# Altium footprint library ICs.PcbLib: 115 footprints (part 1 of 8)
Each footprint in its own frame and in the unit in brackets; x right, y up, seen from the top. Pads: shape width x height; smd on the part's side, far side on the other; paste and mask are expansions set on the pad; w line width, h text height; cw(c..) or ccw(c..) is an arc to the next point about the centre after c.
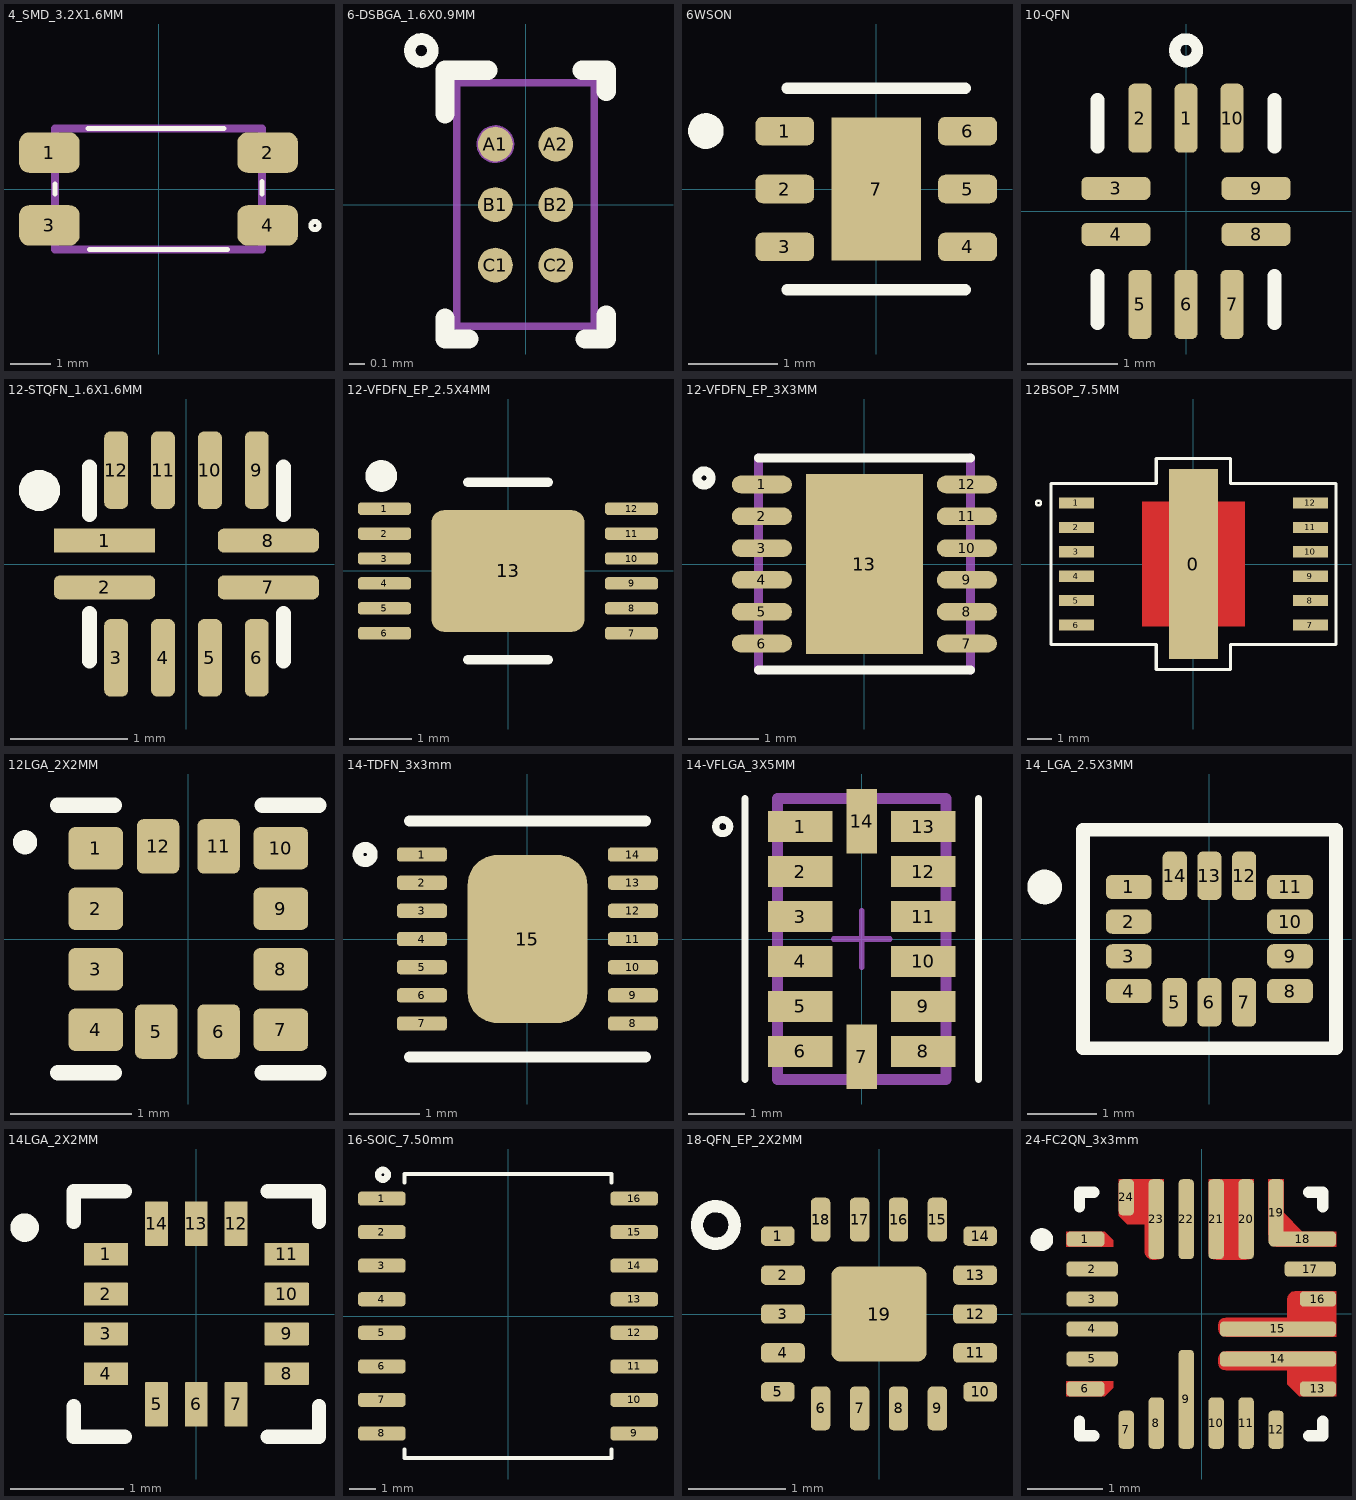
[diagram p0: the footprints below, top view; thin cyan lines are the x and y axes]

## 4_SMD_3.2X1.6MM [mm] "/ 20191115/ J-P.Vargas.A"
pads (4):
  rrect50% 1.5x1 smd: 1(-2.7,0.9) 2(2.7,0.9) 3(-2.7,-0.9) 4(2.7,-0.9)
Top Overlay:
  lines w0.127: -2.56,-0.12 -2.56,0.12 ; -1.74,1.5 1.62,1.5 ; -1.71,-1.5 1.71,-1.5 ; 2.56,-0.12 2.56,0.18 ; 3.962,-0.94 cw(c3.869,-0.905) 3.969,-0.905
Mechanical 1:
  lines w0.2: -2.56,-1.5 2.56,-1.5 2.56,1.5 -2.56,1.5 -2.56,-1.5
3D body "Kingbright_APS-5130.step": height 1.2, standoff 0, extent -2.56,-1.525 2.56,1.475
3D body "Kingbright_APS-5130.step": height 1.2, standoff 0, extent -2.56,-1.526 2.56,1.475

## 6-DSBGA_1.6X0.9MM [mm] "20220103 / A-F. Romo"
pads (6):
  round 0.23 smd paste-0.102 mask+0.038: A1(-0.2,0.4) A2(0.2,0.4) B1(-0.2,0) B2(0.2,0) C1(-0.2,-0.4) C2(0.2,-0.4)
Top Overlay:
  circle w0.076: c-0.69,1.019 r0.076
  lines w0.127: -0.533,-0.75 -0.533,-0.889 -0.375,-0.889 ; -0.533,0.6 -0.533,0.889 -0.25,0.889 ; 0.375,0.889 0.533,0.889 0.533,0.75 ; 0.394,-0.889 0.533,-0.889 0.533,-0.731
Top Paste:
  circle w0.05: c-0.125,-0.325 r0.025
  circle w0.05: c-0.275,-0.475 r0.025
  circle w0.05: c-0.275,-0.325 r0.025
  circle w0.05: c-0.125,-0.475 r0.025
  circle w0.05: c0.275,-0.475 r0.025
  circle w0.05: c0.125,-0.325 r0.025
  circle w0.05: c0.125,-0.475 r0.025
  circle w0.05: c0.275,-0.325 r0.025
  circle w0.05: c-0.125,0.075 r0.025
  circle w0.05: c-0.275,-0.075 r0.025
  circle w0.05: c-0.275,0.075 r0.025
  circle w0.05: c-0.125,-0.075 r0.025
  circle w0.05: c0.275,-0.075 r0.025
  circle w0.05: c0.125,0.075 r0.025
  circle w0.05: c0.125,-0.075 r0.025
  circle w0.05: c0.275,0.075 r0.025
  circle w0.05: c-0.125,0.475 r0.025
  circle w0.05: c-0.275,0.325 r0.025
  circle w0.05: c-0.275,0.475 r0.025
  circle w0.05: c-0.125,0.325 r0.025
  circle w0.05: c0.275,0.325 r0.025
  circle w0.05: c0.125,0.475 r0.025
  circle w0.05: c0.125,0.325 r0.025
  circle w0.05: c0.275,0.475 r0.025
  region: -0.275,-0.475 -0.275,-0.525 -0.125,-0.525 -0.125,-0.475
  region: -0.275,-0.325 -0.325,-0.325 -0.325,-0.475 -0.275,-0.475
  region: -0.125,-0.325 -0.125,-0.275 -0.275,-0.275 -0.275,-0.325
  region: -0.125,-0.475 -0.075,-0.475 -0.075,-0.325 -0.125,-0.325
  region: -0.125,-0.325 -0.275,-0.325 -0.275,-0.475 -0.125,-0.475
  region: 0.275,-0.325 0.125,-0.325 0.125,-0.475 0.275,-0.475
  region: 0.275,-0.475 0.325,-0.475 0.325,-0.325 0.275,-0.325
  region: 0.275,-0.325 0.275,-0.275 0.125,-0.275 0.125,-0.325
  region: 0.125,-0.325 0.075,-0.325 0.075,-0.475 0.125,-0.475
  region: 0.125,-0.475 0.125,-0.525 0.275,-0.525 0.275,-0.475
  region: -0.275,-0.075 -0.275,-0.125 -0.125,-0.125 -0.125,-0.075
  region: -0.275,0.075 -0.325,0.075 -0.325,-0.075 -0.275,-0.075
  region: -0.125,0.075 -0.125,0.125 -0.275,0.125 -0.275,0.075
  region: -0.125,-0.075 -0.075,-0.075 -0.075,0.075 -0.125,0.075
  region: -0.125,0.075 -0.275,0.075 -0.275,-0.075 -0.125,-0.075
  region: 0.275,0.075 0.125,0.075 0.125,-0.075 0.275,-0.075
  region: 0.275,-0.075 0.325,-0.075 0.325,0.075 0.275,0.075
  region: 0.275,0.075 0.275,0.125 0.125,0.125 0.125,0.075
  region: 0.125,0.075 0.075,0.075 0.075,-0.075 0.125,-0.075
  region: 0.125,-0.075 0.125,-0.125 0.275,-0.125 0.275,-0.075
  region: -0.275,0.325 -0.275,0.275 -0.125,0.275 -0.125,0.325
  region: -0.275,0.475 -0.325,0.475 -0.325,0.325 -0.275,0.325
  region: -0.125,0.475 -0.125,0.525 -0.275,0.525 -0.275,0.475
  region: -0.125,0.325 -0.075,0.325 -0.075,0.475 -0.125,0.475
  region: -0.125,0.475 -0.275,0.475 -0.275,0.325 -0.125,0.325
  region: 0.275,0.475 0.125,0.475 0.125,0.325 0.275,0.325
  region: 0.275,0.325 0.325,0.325 0.325,0.475 0.275,0.475
  region: 0.275,0.475 0.275,0.525 0.125,0.525 0.125,0.475
  region: 0.125,0.475 0.075,0.475 0.075,0.325 0.125,0.325
  region: 0.125,0.325 0.125,0.275 0.275,0.275 0.275,0.325
Mechanical 1:
  lines w0.05: -0.455,-0.805 -0.455,0.805 0.455,0.805 0.455,-0.805 -0.455,-0.805
Mechanical 13:
  circle w0.05: c-0.2,0.4 r0.1
3D body "BQ25101YFPR.STEP": height 0.5, standoff 0, extent -0.4,-0.6 0.4,0.6

## 6WSON [mm] "/20240322/ J.Jaramillo"
pads (7):
  rrect50% 0.66x0.32 smd: 1(-1.025,0.65) 2(-1.025,0) 3(-1.025,-0.65) 4(1.025,-0.65) 5(1.025,0) 6(1.025,0.65)
  rect 1x1.6 smd paste-2: 7(0,0)
Top Overlay:
  circle w0.2: c-1.91,0.65 r0.1
  lines w0.127: -1,-1.13 1,-1.13 ; -1,1.13 1,1.13
Top Paste:
  region: 0.316,-0.506 -0.316,-0.506 -0.316,0.506 0.316,0.506
3D body "step_temp.STEP": height 0.8, standoff 0, extent -1,-1 1,1

## 10-QFN [mil] "/20230802/J-A.Sepulveda"
pads (10):
  rrect50% 10x30 smd: 1(0,40.5) 2(-20,40.5) 5(-20,-40.5) 6(0,-40.5) 7(20,-40.5) 10(20,40.5)
  rrect50% 30x10 smd: 3(-30.5,10) 4(-30.5,-10) 8(30.5,-10) 9(30.5,10)
Top Overlay:
  circle w5: c0,70 r4.92
  lines w6: -38.5,-48.5 -38.5,-28.1 ; -38.5,28.1 -38.5,48.5 ; 38.5,-48.5 38.5,-28.1 ; 38.5,28.1 38.5,48.5
3D body "QFN10_1P6X2P1MC_MCH.step": height 65.12, standoff 0, extent -33.5,-43.5 33.5,43.5

## 12-STQFN_1.6X1.6MM [mil] "12X2 QFN/20230808/N-A.Potosi"
pads (12):
  rect 34x8 smd paste+0 mask+0: 1(-27.5,7.87)
  rrect50% 34x8 smd paste+0 mask+0: 2(-27.5,-7.87) 7(27.5,-7.87) 8(27.5,7.87)
  rrect50% 8x26 smd paste+0 mask+0: 3(-23.62,-31.5) 4(-7.87,-31.5) 5(7.87,-31.5) 6(23.62,-31.5) 9(23.62,31.5) 10(7.87,31.5) 11(-7.87,31.5) 12(-23.62,31.5)
Top Overlay:
  region: -49.42,17.91 -50.77,17.91 -53.28,18.95 -55.2,20.87 -56.24,23.38 -56.24,24.74 -56.24,26.1 -55.2,28.6 -53.28,30.52 -50.77,31.56 -49.42,31.56 -48.06,31.56 -45.55,30.52 -43.63,28.6 -42.59,26.1 -42.59,24.74 -42.59,23.38 -43.63,20.87 -45.55,18.95 -48.06,17.91
  lines w5: -32.52,-32.52 -32.52,-16.57 ; -32.52,16.57 -32.52,32.52 ; 32.52,-32.52 32.52,-16.57 ; 32.52,16.57 32.52,32.52
3D body "STQFN_PI5USB30216DXUAEX_DIO.step": height 16.1, standoff 0, extent -32.52,-32.52 32.52,32.52

## 12-VFDFN_EP_2.5X4MM [mm] "12-SON/20220531/N-A.Potosi"
pads (13):
  rrect50% 0.85x0.2 smd: 1(-1.981,1) 2(-1.981,0.6) 3(-1.981,0.2) 4(-1.981,-0.2) 5(-1.981,-0.6) 6(-1.981,-1) 7(1.981,-1) 8(1.981,-0.6) 9(1.981,-0.2) 10(1.981,0.2) 11(1.981,0.6) 12(1.981,1)
  rrect20% 2.45x1.95 smd: 13(0,0)
Top Overlay:
  circle w0.254: c-2.032,1.524 r0.127
  lines w0.152: -0.642,-1.427 0.642,-1.427 ; -0.642,1.427 0.642,1.427
3D body "DRZ0012A.stp": height 1, standoff 0, extent -2,-1.25 2,1.25

## 12-VFDFN_EP_3X3MM [mm] "/20210809/J-E.Pachon"
pads (13):
  oval 0.85x0.25 smd: 1(-1.45,1.125) 2(-1.45,0.675) 3(-1.45,0.225) 4(-1.45,-0.225) 5(-1.45,-0.675) 6(-1.45,-1.125) 7(1.45,-1.125) 8(1.45,-0.675) 9(1.45,-0.225) 10(1.45,0.225) 11(1.45,0.675) 12(1.45,1.125)
  rect 1.65x2.55 smd paste-2: 13(0,0)
Top Overlay:
  circle w0.127: c-2.268,1.217 r0.1
  lines w0.127: -1.5,-1.5 1.5,-1.5 ; -1.5,1.5 1.5,1.5
Top Paste:
  region: 0.46,-0.912 -0.461,-0.912 -0.461,0.91 0.46,0.91
Mechanical 13:
  lines w0.127: -1.5,-1.5 -1.5,1.5 ; 1.5,-1.5 1.5,1.5
3D body "FT234XD-T.STEP": height 0.81, standoff 0.01, extent -1.5,-1.5 1.5,1.5

## 12BSOP_7.5MM [mil] "/20220808/J-E.Pachon"
pads (13):
  rect 78.74x307.09 smd: 0(0,0)
  rect 56x18 smd paste+0: 1(-188.76,98.43) 2(-188.76,59.06) 3(-188.76,19.68) 4(-188.76,-19.68) 5(-188.76,-59.06) 6(-188.76,-98.43) 7(188.76,-98.43) 8(188.76,-59.06) 9(188.76,-19.68) 10(188.76,19.68) 11(188.76,59.06) 12(188.76,98.43)
Top Layer:
  region: -82.5,-100.5 -82.5,100.5 82.5,100.5 82.5,-100.5
Top Overlay:
  circle w3.94: c-250,98.43 r3.94
  lines w5: -230,-130 -230,120 -230,130 -82.5,130 -60,130 -60,170 60,170 60,130 230,130 230,120 230,-130 60,-130 60,-170 -50,-170 -60,-170 -60,-130 -230,-130
3D body "IFX9201SG-.STEP": height 100, standoff 0.62, extent -203.27,-153.55 203.27,153.54

## 12LGA_2X2MM [mm] "/20210319/J-E.Pachon"
pads (12):
  rrect30% 0.45x0.35 smd: 1(-0.765,0.75) 2(-0.765,0.25) 3(-0.765,-0.25) 4(-0.765,-0.75) 7(0.765,-0.75) 8(0.765,-0.25) 9(0.765,0.25) 10(0.765,0.75)
  rrect30% 0.35x0.45 smd: 5(-0.265,-0.765) 6(0.25,-0.765) 11(0.25,0.765) 12(-0.25,0.765)
Top Overlay:
  circle w0.1: c-1.35,0.8 r0.05
  lines w0.127: -1.08,-1.105 -0.61,-1.105 ; -1.08,1.105 -0.61,1.105 ; 0.61,-1.105 1.08,-1.105 ; 0.61,1.105 1.08,1.105
3D body "LGA-12_STM.step": height 0.99, standoff 0, extent -1.078,-1.086 1.082,1.074

## 14-TDFN_3x3mm [mil] "/20230801/J-A.Sepulveda"
pads (15):
  rrect50% 28x8 smd: 1(-59,47.24) 2(-59,31.5) 3(-59,15.75) 4(-59,0) 5(-59,-15.75) 6(-59,-31.5) 7(-59,-47.24) 8(59,-47.24) 9(59,-31.5) 10(59,-15.75) 11(59,0) 12(59,15.75) 13(59,31.5) 14(59,47.24)
  rrect50% 67x94 smd: 15(0,0)
Top Overlay:
  circle w6: c-90.75,47.24 r4
  lines w6: -66,-66 66,-66 ; -66,66 66,66
3D body "21-0137_T1433+2C_MXM.step": height 32.09, standoff 0, extent -60.98,-60.98 60.98,60.98

## 14-VFLGA_3X5MM [mm] "/20210809/J-E.Pachon"
pads (14):
  rect 1.145x0.55 smd paste+0 mask+0.102: 1(-1.098,2) 2(-1.098,1.2) 3(-1.098,0.4) 4(-1.098,-0.4) 5(-1.098,-1.2) 6(-1.098,-2) 8(1.098,-2) 9(1.098,-1.2) 10(1.098,-0.4) 11(1.098,0.4) 12(1.098,1.2) 13(1.098,2)
  rect 0.55x1.145 smd paste+0 mask+0.102: 7(0,-2.097) 14(0,2.097)
Top Overlay:
  circle w0.127: c-2.475,2 r0.125
  lines w0.127: -2.075,-2.5 -2.075,2.5 ; 2.075,-2.5 2.075,2.5
Mechanical 13:
  lines w0.2: -1.5,-2.5 1.5,-2.5 1.5,2.5 -1.5,2.5 -1.5,-2.5
Mechanical 16:
  lines w0.1: -0.5,0 0.5,0 ; 0,-0.5 0,0.5
3D body "IC_Analog_Devices_ADXL345BCCZ-RL7_eec.STEP": height 0.25, standoff 0, extent -2.17,-3.17 2.17,3.17

## 14_LGA_2.5X3MM [mm] "/20210809/V-A.Patino"
pads (14):
  rrect50% 0.66x0.35 smd: 1(-1.162,0.75) 2(-1.162,0.25) 3(-1.162,-0.25) 4(-1.162,-0.75) 8(1.163,-0.75) 9(1.163,-0.25) 10(1.163,0.25) 11(1.163,0.75)
  rrect50% 0.35x0.7 smd: 5(-0.5,-0.913) 6(0,-0.913) 7(0.5,-0.913) 12(0.5,0.913) 13(0,0.913) 14(-0.5,0.913)
Top Overlay:
  circle w0.25: c-2.375,0.75 r0.125
  lines w0.2: -1.825,-1.575 1.825,-1.575 1.825,1.575 -1.825,1.575 -1.825,-1.575
3D body "IC_STMicroelectronics_LSM6DSMTR_eec.STEP": height 0.86, standoff 0, extent -1.5,-1.25 1.5,1.25

## 14LGA_2X2MM [mm] "/20210809/J-E.Pachon"
pads (14):
  rrect5% 0.39x0.2 smd: 1(-0.795,0.525) 2(-0.795,0.175) 3(-0.795,-0.175) 4(-0.795,-0.525) 8(0.795,-0.525) 9(0.795,-0.175) 10(0.795,0.175) 11(0.795,0.525)
  rrect5% 0.2x0.39 smd: 5(-0.35,-0.795) 6(0,-0.795) 7(0.35,-0.795) 12(0.35,0.795) 13(0,0.795) 14(-0.35,0.795)
Top Overlay:
  circle w0.15: c-1.51,0.76 r0.05
  lines w0.127: -1.08,-0.81 -1.08,-1.08 -0.63,-1.08 ; -1.08,0.81 -1.08,1.08 -0.63,1.08 ; 0.63,-1.08 1.08,-1.08 1.08,-0.81 ; 0.63,1.08 1.08,1.08 1.08,0.81
3D body "LIS2DHTR--3DModel-STEP-56544.STEP": height 1.01, standoff 0.01, extent -1,-1 1,1

## 16-SOIC_7.50mm [mil] "20240529 / J.Jaramillo"
pads (16):
  rrect50% 71x21 smd paste+0: 1(-188,175) 2(-188,125) 3(-188,75) 4(-188,25) 5(-188,-25) 6(-188,-75) 7(-188,-125) 8(-188,-175) 9(188,-175) 10(188,-125) 11(188,-75) 12(188,-25) 13(188,25) 14(188,75) 15(188,125) 16(188,175)
Top Overlay:
  circle w10: c-186.32,210.43 r7.07
  lines w6: -154.5,-198.6 -154.5,-211.5 154.5,-211.5 154.5,-198.6 ; -154.5,198.6 -154.5,211.5 154.5,211.5 154.5,198.6
3D body "SOT162-1_NXP.step": height 104.09, standoff 0, extent -209.49,-206.5 209.49,206.5

## 18-QFN_EP_2X2MM [mm] "18-XFQFN_EP/20210809/V-A.PATINO"
pads (19):
  rrect50% 0.346x0.2 smd: 1(-1.039,0.8) 5(-1.039,-0.8) 10(1.039,-0.8) 14(1.039,0.8)
  rrect50% 0.45x0.2 smd: 2(-0.987,0.4) 3(-0.987,0) 4(-0.987,-0.4) 11(0.987,-0.4) 12(0.987,0) 13(0.987,0.4)
  rrect50% 0.2x0.45 smd: 6(-0.6,-0.97) 7(-0.2,-0.97) 8(0.2,-0.97) 9(0.6,-0.97) 15(0.6,0.97) 16(0.2,0.97) 17(-0.2,0.97) 18(-0.6,0.97)
  rrect20% 0.98x0.98 smd: 19(0,0)
Top Overlay:
  circle w0.127: c-1.676,0.914 r0.193
3D body: height 0.45, standoff 0, extent -1,-1 1,1

## 24-FC2QN_3x3mm [mil] "/20230801/J-A.Sepulveda"
pads (24):
  rrect50% 20x8 smd: 1(-61.11,39.12) 6(-61.11,-39.62)
  rrect50% 27x8 smd: 2(-57.61,23.37) 3(-57.61,7.62) 4(-57.61,-8.12) 5(-57.61,-23.87) 17(57.11,23.37)
  rrect50% 8x20 smd: 7(-39.62,-61.11) 12(39.12,-61.11)
  rrect50% 8x27 smd: 8(-23.87,-57.61) 10(7.62,-57.61) 11(23.37,-57.61)
  rrect50% 8x52 smd: 9(-8.12,-45.11)
  rrect50% 19x8 smd: 13(61.11,-39.62) 16(61.11,7.62)
  rrect50% 61x8 smd: 14(40.11,-23.87) 15(40.11,-8.12)
  rrect50% 35x8 smd: 18(53.11,39.12)
  rrect50% 8x35 smd: 19(39.12,53.11)
  rrect50% 8x42 smd: 20(23.37,49.61) 21(7.62,49.61) 22(-8.12,49.61) 23(-23.87,49.61)
  rrect50% 8x19 smd: 24(-39.62,61.11)
Top Layer:
  region: 49.01,11.62 70.61,11.62 70.61,-12.12 12.63,-12.12 11.1,-11.82 9.8,-10.95 8.93,-9.65 8.63,-8.12 8.63,-6.12 8.93,-4.59 9.8,-3.29 11.1,-2.42 12.63,-2.12 45.02,-2.12 45.01,7.62 45.31,9.15 46.18,10.45 47.48,11.32
  region: 51.4,-43.62 70.61,-43.62 70.61,-19.87 12.63,-19.87 11.1,-20.18 9.8,-21.04 8.93,-22.34 8.63,-23.87 8.63,-25.88 8.93,-27.41 9.8,-28.71 11.1,-29.58 12.63,-29.88 45.02,-29.87 45.02,-37.24
  region: 3.62,32.31 3.62,70.61 27.37,70.61 27.37,32.31 27.07,30.78 26.2,29.48 24.9,28.62 23.37,28.31 7.62,28.31 6.09,28.62 4.8,29.48 3.93,30.78
  region: 35.12,43.61 35.12,70.61 43.12,70.61 43.12,52.9 52.9,43.12 70.61,43.12 70.61,35.12 43.61,35.12 39.16,35.12 37.63,35.42 36.34,36.29 35.47,37.59 35.16,39.12
  region: -71.11,35.12 -46.51,35.12 -46.51,38.58 -50.92,43.12 -71.11,43.12
  region: -43.62,51.4 -43.62,70.61 -19.87,70.61 -19.87,32.31 -20.18,30.78 -21.04,29.48 -22.34,28.62 -23.87,28.31 -25.88,28.31 -27.41,28.62 -28.71,29.48 -29.58,30.78 -29.88,32.31 -29.87,46.99 -39.21,46.99
  region: -71.11,-35.62 -46.51,-35.62 -46.51,-39.08 -50.92,-43.62 -71.11,-43.62
  region: -71.11,-35.62 -46.51,-35.62 -46.51,-39.08 -50.92,-43.62 -71.11,-43.62
Top Overlay:
  circle w6: c-84.12,38.84 r3
  lines w6: -64.25,-56.72 -64.25,-64.25 -56.72,-64.25 ; -64.25,56.22 -64.25,63.75 -56.72,63.75 ; 56.22,-64.25 63.75,-64.25 63.75,-56.72 ; 56.22,63.75 63.75,63.75 63.75,56.22
Top Paste:
  region: 51.4,-43.62 70.61,-43.62 70.61,-19.87 12.63,-19.87 11.1,-20.18 9.8,-21.04 8.93,-22.34 8.63,-23.87 8.63,-25.88 8.93,-27.41 9.8,-28.71 11.1,-29.58 12.63,-29.88 45.02,-29.87 45.02,-37.24
  region: 49.01,11.62 70.61,11.62 70.61,-12.12 12.63,-12.12 11.1,-11.82 9.8,-10.95 8.93,-9.65 8.63,-8.12 8.63,-6.12 8.93,-4.59 9.8,-3.29 11.1,-2.42 12.63,-2.12 45.02,-2.12 45.01,7.62 45.31,9.15 46.18,10.45 47.48,11.32
  region: 35.12,43.61 35.12,70.61 43.12,70.61 43.12,52.9 52.9,43.12 70.61,43.12 70.61,35.12 43.61,35.12 39.16,35.12 37.63,35.42 36.34,36.29 35.47,37.59 35.16,39.12
  region: -43.62,51.4 -43.62,70.61 -19.87,70.61 -19.87,32.31 -20.18,30.78 -21.04,29.48 -22.34,28.62 -23.87,28.31 -25.88,28.31 -27.41,28.62 -28.71,29.48 -29.58,30.78 -29.88,32.31 -29.87,46.99 -39.21,46.99
  region: -4.12,32.31 -4.12,70.61 -12.12,70.61 -12.12,32.31 -11.82,30.78 -10.95,29.48 -9.65,28.62 -8.12,28.31 -6.59,28.62 -5.3,29.48 -4.43,30.78
  region: 3.62,32.31 3.62,70.61 27.37,70.61 27.37,32.31 27.07,30.78 26.2,29.48 24.9,28.62 23.37,28.31 7.62,28.31 6.09,28.62 4.8,29.48 3.93,30.78
  region: -71.11,35.12 -46.51,35.12 -46.51,38.58 -50.92,43.12 -71.11,43.12
  region: -71.11,-35.62 -46.51,-35.62 -46.51,-39.08 -50.92,-43.62 -71.11,-43.62
Top Solder:
  region: -71.11,-35.62 -46.51,-35.62 -46.51,-39.08 -50.92,-43.62 -71.11,-43.62
  region: 3.62,32.31 3.62,70.61 27.37,70.61 27.37,32.31 27.07,30.78 26.2,29.48 24.9,28.62 23.37,28.31 7.62,28.31 6.09,28.62 4.8,29.48 3.93,30.78
  region: 35.12,43.61 35.12,70.61 43.12,70.61 43.12,52.9 52.9,43.12 70.61,43.12 70.61,35.12 43.61,35.12 39.16,35.12 37.63,35.42 36.34,36.29 35.47,37.59 35.16,39.12
  region: 49.01,11.62 70.61,11.62 70.61,-12.12 12.63,-12.12 11.1,-11.82 9.8,-10.95 8.93,-9.65 8.63,-8.12 8.63,-6.12 8.93,-4.59 9.8,-3.29 11.1,-2.42 12.63,-2.12 45.02,-2.12 45.01,7.62 45.31,9.15 46.18,10.45 47.48,11.32
  region: -4.12,32.31 -4.12,70.61 -12.12,70.61 -12.12,32.31 -11.82,30.78 -10.95,29.48 -9.65,28.62 -8.12,28.31 -6.59,28.62 -5.3,29.48 -4.43,30.78
  region: -71.11,35.12 -46.51,35.12 -46.51,38.58 -50.92,43.12 -71.11,43.12
  region: -43.62,51.4 -43.62,70.61 -19.87,70.61 -19.87,32.31 -20.18,30.78 -21.04,29.48 -22.34,28.62 -23.87,28.31 -25.88,28.31 -27.41,28.62 -28.71,29.48 -29.58,30.78 -29.88,32.31 -29.87,46.99 -39.21,46.99
  region: 51.4,-43.62 70.61,-43.62 70.61,-19.87 12.63,-19.87 11.1,-20.18 9.8,-21.04 8.93,-22.34 8.63,-23.87 8.63,-25.88 8.93,-27.41 9.8,-28.71 11.1,-29.58 12.63,-29.88 45.02,-29.87 45.02,-37.24
3D body "MAXIM_90-100128.step": height 23.66, standoff 0, extent -61.67,-61.67 60.69,60.69